# Altium schematic symbol library STS4L-AD1B-R3.SchLib: 1 symbol
Pins are listed as number, name and electrical type; pins without a type are passive.

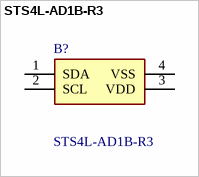
[diagram p0: symbol STS4L-AD1B-R3]

## STS4L-AD1B-R3
designator B?
Board Mount Temperature Sensors The STS4L is a fully digital, highly cost-effective temperature sensor that provides the accuracy required for most applications.; Manufacturer_Name: Sensirion; Geometry.Height: 0.65mm; Manufacturer_Part_Number: STS4L-AD1B-R3; Mouser Part Number: *; Mouser Price/Stock: *; Arrow Part Number: *; Arrow Price/Stock: *; Datasheet Link: https://sensirion.com/media/documents/D2D0B4A9/667AC1F4/HT_DS_Datasheet_STS4x.pdf
footprint STS4LAD1BR3
pins: 1 SDA, 2 SCL, 3 VDD, 4 VSS